# Altium footprint library LQ-TC264-SYSVC带丝印封装.PcbLib: 2 footprints
Each footprint in its own frame and in the unit in brackets; x right, y up, seen from the top. Pads: shape width x height; smd on the part's side, far side on the other; paste and mask are expansions set on the pad; w line width, h text height; cw(c..) or ccw(c..) is an arc to the next point about the centre after c.
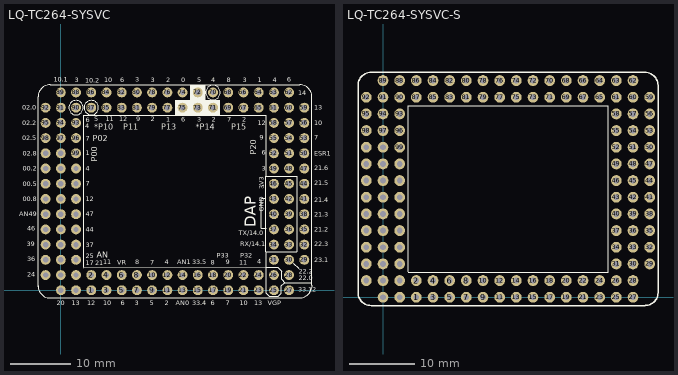
[diagram p0: the footprints below, top view; thin cyan lines are the x and y axes]

## LQ-TC264-SYSVC [mm] "单片机核心板封装库"
pads (127):
  round 1.65 hole 0.88: 1(5.08,0) 2(5.08,2.54) 3(7.62,0) 4(7.62,2.54) 5(10.16,0) 6(10.16,2.54) 7(12.7,0) 8(12.7,2.54) 9(15.24,0) 10(15.24,2.54) 11(17.78,0) 12(17.78,2.54) 13(20.32,0) 14(20.32,2.54) 15(22.86,0) 16(22.86,2.54) 17(25.4,0) 18(25.4,2.54) 19(27.94,0) 20(27.94,2.54) 21(30.48,0) 22(30.48,2.54) 23(33.02,0) 24(33.02,2.54) 25(35.56,0) 26(35.56,2.54) 27(38.1,0) 28(38.1,2.54) 30(38.1,5.08) 31(35.56,5.08) 33(38.1,7.62) 34(35.56,7.62) 36(38.1,10.16) 37(35.56,10.16) 39(38.1,12.7) 40(35.56,12.7) 42(38.1,15.24) 43(35.56,15.24) 45(38.1,17.78) 46(35.56,17.78) 48(38.1,20.32) 49(35.56,20.32) 51(38.1,22.86) 52(35.56,22.86) 54(38.1,25.4) 55(35.56,25.4) 57(38.1,27.94) 58(35.56,27.94) 60(38.1,30.48) 61(35.56,30.48) 62(38.1,33.02) 63(35.56,33.02) 64(33.02,33.02) 65(33.02,30.48) 66(30.48,33.02) 67(30.48,30.48) 68(27.94,33.02) 69(27.94,30.48) 70(25.4,33.02) 71(25.4,30.48) 72(22.86,33.02) 73(22.86,30.48) 74(20.32,33.02) 75(20.32,30.48) 76(17.78,33.02) 77(17.78,30.48) 78(15.24,33.02) 79(15.24,30.48) 80(12.7,33.02) 81(12.7,30.48) 82(10.16,33.02) 83(10.16,30.48) 84(7.62,33.02) 85(7.62,30.48) 86(5.08,33.02) 87(5.08,30.48) 88(2.54,33.02) 89(0,33.02) 90(2.54,30.48) 91(0,30.48) 93(2.54,27.94) 94(0,27.94) 96(2.54,25.4) 97(0,25.4) 99(2.54,22.86) 100(0,22.86) 102(2.54,20.32) 103(0,20.32) 105(2.54,17.78) 106(0,17.78) 108(2.54,15.24) 109(0,15.24) 111(2.54,12.7) 112(0,12.7) 114(2.54,10.16) 115(0,10.16) 117(2.54,7.62) 118(0,7.62) 120(2.54,5.08) 121(0,5.08) 123(2.54,2.54) 124(0,2.54) 126(2.54,0) 127(0,0)
  round 1.65 hole 0.88 mask+0.102: 29(40.64,5.08) 32(40.64,7.62) 35(40.64,10.16) 38(40.64,12.7) 41(40.64,15.24) 44(40.64,17.78) 47(40.64,20.32) 50(40.64,22.86) 53(40.64,25.4) 56(40.64,27.94) 59(40.64,30.48) 92(-2.54,30.48) 95(-2.54,27.94) 98(-2.54,25.4) 101(-2.54,22.86) 104(-2.54,20.32) 107(-2.54,17.78) 110(-2.54,15.24) 113(-2.54,12.7) 116(-2.54,10.16) 119(-2.54,7.62) 122(-2.54,5.08) 125(-2.54,2.54)
Top Overlay:
  circle w0.16: c2.54,30.48 r1.2
  circle w0.16: c5.08,30.48 r1.2
  circle w0.16: c25.4,33.02 r1.2
  rectangle: 21.59,31.75 24.13,34.29
  rectangle: 19.05,29.185 26.543,31.75
  lines w0.1: 4.724,29.21 4.75,29.185 ; 34.315,3.81 34.315,-0.533 34.798,-1.016 36.322,-1.016 36.83,-0.508 36.83,0.762 37.363,1.295 ; 34.315,3.835 36.17,3.835 36.855,3.15 36.855,1.803 37.363,1.295 ; 38.818,4.514 39.751,3.683 ; 41.91,1.295 37.363,1.295
  lines w0.15: 3.81,3.8 34.315,3.81 34.315,6.426 ; 3.81,3.861 3.81,29.185 ; 3.9,29.185 32.258,29.185 ; 31.979,29.185 34.29,29.185 34.29,19.025 ; 33.438,15.26 33.438,10.332 34.163,10.332 34.188,10.307 34.188,6.426 39.37,6.426 ; 33.515,15.336 34.188,15.336 ; 33.769,17.546 33.845,17.622 ; 34.188,6.471 34.188,19.025 39.421,19.025 39.421,6.426
  lines w0.2: -3.81,0.596 -3.81,32.29 cw(c-1.81,32.29) -1.81,34.29 39.91,34.29 cw(c39.91,32.29) 41.91,32.29 41.91,0.861 ; -3.81,0.73 ccw(c-1.81,0.73) -1.81,-1.27 39.805,-1.27 ccw(c39.805,0.861) 41.936,0.861
  text "14" at 39.624,32.512 h0.8
  text "22.3" at 42.291,7.366 h0.8
  text "21.4" at 42.291,14.732 h0.8
  text "21.6" at 42.291,20.066 h0.8
  text "4" at 35.382,34.747 h0.8
  text "21.3" at 42.291,12.294 h0.8
  text "21.5" at 42.291,17.526 h0.8
  text "7" at 42.291,25.146 h0.8
  text "7" at 4.118,17.424 h0.8
  text "10.2" at 4.064,34.671 h0.8
  text "4" at 4.118,19.99 h0.8
  text "10" at 7.264,34.747 h0.8
  text "36" at -5.627,4.826 h0.8
  text "46" at -5.588,9.906 h0.8
  text "7" at 4.118,24.968 h0.8
  text "02.0" at -6.477,30.099 h0.8
  text "02.2" at -6.477,27.559 h0.8
  text "4" at 4.064,27.051 h0.8
  text "12" at 4.118,14.834 h0.8
  text "44" at 4.118,9.779 h0.8
  text "10" at 29.896,-2.54 h0.8
  text "37" at 4.118,7.214 h0.8
  text "VR" at 9.423,4.242 h0.8
  text "33.12" at 39.624,-0.254 h0.8
  text "VGP" at 34.544,-2.54 h0.8
  text "39" at -5.715,7.366 h0.8
  text "11" at 7.112,4.318 h0.8
  text "10.1" at -1.143,34.798 h0.8
  text "3" at 12.395,34.773 h0.8
  text "6" at 4.191,28.067 h0.8
  text "11" at 7.468,28.194 h0.8
  text "9" at 12.548,28.194 h0.8
  text "3" at 15.011,34.747 h0.8
  text "3" at 22.758,28.092 h0.8
  text "1" at 17.577,28.143 h0.8
  text "6" at 20.066,28.143 h0.8
  text "4" at 25.146,34.747 h0.8
  text "2" at 25.171,28.169 h0.8
  text "7" at 27.813,28.092 h0.8
  text "5" at 5.588,28.194 h0.8
  text "2" at 15.037,28.194 h0.8
  text "12" at 9.779,28.219 h0.8
  text "10" at 42.291,27.559 h0.8
  text "6" at 9.931,34.747 h0.8
  text "2" at 17.602,34.747 h0.8
  text "2" at 30.302,28.143 h0.8
  text "0" at 20.066,34.747 h0.8
  text "5" at 22.749,34.747 h0.8
  text "3" at 30.353,34.747 h0.8
  text "1" at 32.85,34.747 h0.8
  text "20" at -0.66,-2.54 h0.8
  text "10" at 7.061,-2.54 h0.8
  text "7" at 14.91,4.293 h0.8
  text "5" at 14.859,-2.54 h0.8
  text "3" at 12.344,-2.54 h0.8
  text "AN0" at 19.177,-2.54 h0.8
  text "33.4" at 21.971,-2.54 h0.8
  text "6" at 24.994,-2.54 h0.8
  text "8" at 24.994,4.267 h0.8
  text "11" at 29.82,4.267 h0.8
  text "13" at 32.258,-2.54 h0.8
  text "13" at 1.804,-2.54 h0.8
  text "8" at 12.432,4.318 h0.8
  text "6" at 9.982,-2.54 h0.8
  text "4" at 17.348,4.343 h0.8
  text "2" at 17.323,-2.54 h0.8
  text "33.5" at 21.971,4.318 h0.8
  text "7" at 27.534,-2.54 h0.8
  text "23.1" at 42.291,4.699 h0.8
  text "47" at 4.118,12.319 h0.8
  text "AN49" at -6.985,12.319 h0.8
  text "1" at 4.118,22.504 h0.8
  text "02.5" at -6.477,25.019 h0.8
  text "3" at 2.343,34.747 h0.8
  text "24" at -5.588,2.286 h0.8
  text "3V3" at 33.909,16.891 h0.8
  text "13" at 42.291,30.099 h0.8
  text "9" at 38.456,35.547 h0.8
  text "12" at 32.893,27.559 h0.8
  text "8" at 27.711,34.747 h0.8
  text "3" at 33.528,19.939 h0.8
  text "6" at 33.909,25.908 h0.8
  text "6" at 33.528,22.606 h0.8
  text "TX/14.0" at 29.718,9.144 h0.8
  text "ESR1" at 42.291,22.479 h0.8
  text "25" at 4.191,5.334 h0.8
  text "12" at 4.445,-2.54 h0.8
  text "4" at 32.766,4.394 h0.8
  text "DAP" at 32.512,10.541 h1.8
  text "GND" at 33.909,13.081 h0.8
  text "21.2" at 42.291,9.804 h0.8
  text "AN1" at 19.431,4.318 h0.8
  text "RX/14.1" at 29.972,7.366 h0.8
  text "9" at 27.508,4.318 h0.8
  text "P02" at 5.334,24.892 h1
  text "P00" at 6.096,21.412 h1
  text "AN" at 5.969,5.461 h1
  text "P33" at 26.035,5.461 h0.8
  text "*P10" at 5.588,26.797 h1
  text "P11" at 10.414,26.797 h1
  text "*P14" at 22.479,26.757 h1
  text "P13" at 16.764,26.797 h1
  text "P15" at 28.448,26.797 h1
  text "P20" at 32.639,22.606 h1
  text "P32" at 29.972,5.461 h0.8
  text "00.5" at -6.35,17.399 h0.8
  text "00.2" at -6.35,19.939 h0.8
  text "00.8" at -6.35,14.859 h0.8
  text "02.8" at -6.35,22.479 h0.8
  text "21" at 5.715,4.191 h0.8
  text "17" at 4.191,4.191 h0.8
  text "22.0" at 39.751,1.651 h0.8
  text "22.2" at 39.751,2.794 h0.8
Bottom Overlay:
  circle w0.16: c2.54,30.48 r1.2
  circle w0.16: c5.08,30.48 r1.2
  circle w0.16: c25.4,33.02 r1.2
  rectangle: 19.05,29.21 26.543,31.75
  rectangle: 21.59,31.623 24.13,34.29
  lines w0.1: -3.91,13.97 3.81,13.97 ; -3.91,21.539 -2.108,21.539 -1.27,22.377 -1.27,23.597 -0.686,24.181 3.81,24.181 ; -3.81,31.699 0.686,31.699 1.27,31.115 1.27,29.845 1.905,29.21 4.724,29.21 ; 3.835,3.785 3.835,29.21 ; 6.35,29.21 6.35,34.29 ; 13.97,34.29 13.97,32.385 14.605,31.75 15.875,31.75 16.51,31.115 16.51,29.21 ; 19.075,29.185 19.075,31.013 19.812,31.75 21.209,31.75 21.304,31.845 21.495,32.036 21.59,32.131 21.59,34.29 ; 21.565,-1.27 21.565,3.734 ; 26.67,29.21 26.67,34.29 ; 31.75,3.809 31.75,1.905 32.385,1.27 33.655,1.27 34.163,0.762 ; 31.75,3.81 36.195,3.81 36.83,3.175 36.83,-0.508 36.322,-1.016 34.671,-1.016 34.163,-0.508 34.163,0.762 ; 34.163,0.635 34.163,0.762 ; 34.265,3.81 34.265,29.261 ; 34.265,19.05 39.37,19.05 39.37,6.477 34.315,6.477 ; 34.29,20.117 34.29,19.939 34.976,19.253 38.837,19.253 39.37,19.787 39.37,20.955 ; 34.29,29.21 36.195,29.21 36.83,29.845 36.83,31.115 37.49,31.775 42,31.775 ; 36.83,1.27 41.91,1.27 ; 36.932,27.164 37.389,27.621 ; 37.211,24.536 37.668,24.994 ; 37.567,29.489 38.024,29.947 ; 39.395,8.89 41.91,8.89 ; 41.91,21.565 39.98,21.565 39.37,20.955 ; 41.91,24.105 37.313,24.105 36.855,23.647 36.855,22.149 37.44,21.565 38.76,21.565 39.37,20.955
  lines w0.15: 3.81,3.81 34.265,3.81 ; 3.835,29.185 34.29,29.185
  lines w0.2: -3.81,0.635 -3.81,32.29 cw(c-1.81,32.29) -1.81,34.29 ; -3.81,0.73 ccw(c-1.81,0.73) -1.81,-1.27 ; -1.905,-1.27 39.599,-1.27 ; -1.905,34.29 39.91,34.29 cw(c39.91,32.29) 41.91,32.29 41.91,0.762 cw(c39.853,0.762) 39.853,-1.295
  text "22.2" at 37.973,3.429 h0.8
  text "P32" at 31.496,5.334 h0.8
  text "P20" at 32.639,25.019 h1
  text "P15" at 30.734,26.797 h1
  text "P13" at 18.669,26.757 h1
  text "*P14" at 24.892,26.757 h1
  text "P11" at 12.319,26.797 h1
  text "*P10" at 8.636,26.797 h1
  text "P33" at 27.559,5.207 h0.8
  text "AN" at 7.493,5.588 h1
  text "P00" at 5.969,23.622 h1
  text "P02" at 7.366,24.765 h1
  text "9" at 28.016,3.983 h0.8
  text "14.1/RX" at 33.909,7.366 h0.8
  text "AN1" at 21.209,3.937 h0.8
  text "21.2" at 44.323,9.779 h0.8
  text "45" at -0.635,8.509 h0.8
  text "DAP" at 31.877,15.748 h1.8
  text "4" at 33.147,3.937 h0.8
  text "35" at -0.635,3.404 h0.8
  text "12" at 5.588,-2.032 h0.8
  text "25" at 5.207,4.699 h0.8
  text "ESR1" at 44.45,22.479 h0.8
  text "ESR0" at 37.846,21.209 h0.8
  text "TDO" at 37.846,11.049 h0.8
  text "0" at 37.084,19.05 h0.8
  text "TMS" at 37.922,16.205 h0.8
  text "TCK" at 37.998,13.64 h0.8
  text "TR" at 37.465,8.509 h0.8
  text "14.0/TX" at 33.909,9.779 h0.8
  text "6" at 34.163,22.479 h0.8
  text "6" at 33.655,25.908 h0.8
  text "3" at 34.163,20.066 h0.8
  text "14" at 37.592,28.829 h0.8
  text "8" at 28.092,34.163 h0.8
  text "5" at 34.671,28.829 h0.8
  text "12" at 34.29,27.432 h0.8
  text "9" at 37.846,34.963 h0.8
  text "13" at 43.205,29.947 h0.8
  text "24" at -4.039,2.286 h0.8
  text "3" at 2.724,34.163 h0.8
  text "5" at -4.064,25.019 h0.8
  text "8" at -4.039,22.555 h0.8
  text "1" at -1.016,28.931 h0.8
  text "3" at -1.016,26.441 h0.8
  text "1" at 4.597,22.504 h0.8
  text "49" at -4.039,12.319 h0.8
  text "47" at 5.359,12.319 h0.8
  text "23.1" at 44.069,4.699 h0.8
  text "7" at 28.194,-2.032 h0.8
  text "33.5" at 24.003,3.937 h0.8
  text "2" at 17.907,-2.032 h0.8
  text "4" at 17.856,3.983 h0.8
  text "6" at 10.414,-2.032 h0.8
  text "8" at 12.94,3.983 h0.8
  text "13" at 3.048,-2.032 h0.8
  text "17" at 1.905,0.889 h0.8
  text "21" at 6.35,4.064 h0.8
  text "13" at 33.528,-2.032 h0.8
  text "11" at 30.836,4.013 h0.8
  text "8" at 25.502,3.983 h0.8
  text "6" at 25.654,-2.032 h0.8
  text "33.4" at 24.003,-2.159 h0.8
  text "AN0" at 21.463,-2.032 h0.8
  text "3" at 13.081,-2.032 h0.8
  text "5" at 15.494,-2.032 h0.8
  text "7" at 15.418,3.983 h0.8
  text "10" at 8.128,-2.032 h0.8
  text "16" at -0.635,0.914 h0.8
  text "20" at 0.635,-2.032 h0.8
  text "1" at 33.147,34.163 h0.8
  text "3" at 30.734,34.163 h0.8
  text "5" at 23.13,34.163 h0.8
  text "0" at 20.447,34.163 h0.8
  text "2" at 30.81,28.346 h0.8
  text "2" at 17.983,34.163 h0.8
  text "6" at 10.312,34.163 h0.8
  text "10" at 43.307,27.407 h0.8
  text "12" at 10.287,28.346 h0.8
  text "2" at 15.545,28.346 h0.8
  text "5" at 5.588,28.194 h0.8
  text "0" at 33.299,28.346 h0.8
  text "7" at 28.321,28.346 h0.8
  text "2" at 25.679,28.346 h0.8
  text "4" at 25.527,34.163 h0.8
  text "6" at 20.574,28.346 h0.8
  text "1" at 18.085,28.346 h0.8
  text "3" at 23.266,28.346 h0.8
  text "3" at 15.392,34.163 h0.8
  text "9" at 13.056,28.346 h0.8
  text "11" at 7.976,28.346 h0.8
  text "6" at 4.699,28.194 h0.8
  text "3" at 12.776,34.163 h0.8
  text "10.1" at 0.889,34.163 h0.8
  text "11" at 8.001,3.937 h0.8
  text "39" at -4.039,7.188 h0.8
  text "VGP" at 36.449,-2.032 h0.8
  text "33.12" at 42.164,-0.381 h0.8
  text "VR" at 10.922,3.937 h0.8
  text "37" at 5.359,7.214 h0.8
  text "10" at 31.242,-2.032 h0.8
  text "44" at 5.359,9.779 h0.8
  text "48" at -0.635,11.024 h0.8
  text "12" at 5.359,14.834 h0.8
  text "4" at 4.572,27.305 h0.8
  text "2" at -4.039,27.559 h0.8
  text "0" at -4.039,30.124 h0.8
  text "7" at 4.597,24.968 h0.8
  text "46" at -4.039,9.779 h0.8
  text "36" at -4.039,4.674 h0.8
  text "38" at -0.635,5.867 h0.8
  text "10" at 8.128,34.163 h0.8
  text "4" at 4.597,19.99 h0.8
  text "8" at -4.039,14.884 h0.8
  text "10.2" at 5.969,34.29 h0.8
  text "2" at -4.039,19.99 h0.8
  text "5" at -4.039,17.399 h0.8
  text "7" at 4.597,17.424 h0.8
  text "0" at 34.671,3.429 h0.8
  text "7" at 42.799,25.019 h0.8
  text "21.5" at 44.323,17.399 h0.8
  text "21.3" at 44.323,12.319 h0.8
  text "4" at 35.763,34.163 h0.8
  text "8" at 37.084,23.876 h0.8
  text "21.6" at 44.196,19.812 h0.8
  text "21.4" at 44.196,14.859 h0.8
  text "0" at 39.878,2.159 h0.8
  text "22.3" at 44.196,7.239 h0.8
  text "22.1" at 34.036,5.207 h0.8
  text "GND" at 32.258,13.081 h0.8
  text "3V3" at 34.29,17.399 h0.8
  text "GND" at 32.258,15.621 h0.8
  text "RST" at 37.846,5.969 h0.8
  text "6" at -1.016,23.851 h0.8
  text "3" at -1.016,18.847 h0.8
  text "0" at -1.016,21.387 h0.8
  text "6" at -1.016,16.256 h0.8
  text "9" at -1.016,13.665 h0.8
  text "11" at 37.363,26.365 h0.8

## LQ-TC264-SYSVC-S [mm] "单片机核心板封装库"
pads (127):
  round 1.65 hole 0.88: 1(5.08,0) 2(5.08,2.54) 3(7.62,0) 4(7.62,2.54) 5(10.16,0) 6(10.16,2.54) 7(12.7,0) 8(12.7,2.54) 9(15.24,0) 10(15.24,2.54) 11(17.78,0) 12(17.78,2.54) 13(20.32,0) 14(20.32,2.54) 15(22.86,0) 16(22.86,2.54) 17(25.4,0) 18(25.4,2.54) 19(27.94,0) 20(27.94,2.54) 21(30.48,0) 22(30.48,2.54) 23(33.02,0) 24(33.02,2.54) 25(35.56,0) 26(35.56,2.54) 27(38.1,0) 28(38.1,2.54) 30(38.1,5.08) 31(35.56,5.08) 33(38.1,7.62) 34(35.56,7.62) 36(38.1,10.16) 37(35.56,10.16) 39(38.1,12.7) 40(35.56,12.7) 42(38.1,15.24) 43(35.56,15.24) 45(38.1,17.78) 46(35.56,17.78) 48(38.1,20.32) 49(35.56,20.32) 51(38.1,22.86) 52(35.56,22.86) 54(38.1,25.4) 55(35.56,25.4) 57(38.1,27.94) 58(35.56,27.94) 60(38.1,30.48) 61(35.56,30.48) 62(38.1,33.02) 63(35.56,33.02) 64(33.02,33.02) 65(33.02,30.48) 66(30.48,33.02) 67(30.48,30.48) 68(27.94,33.02) 69(27.94,30.48) 70(25.4,33.02) 71(25.4,30.48) 72(22.86,33.02) 73(22.86,30.48) 74(20.32,33.02) 75(20.32,30.48) 76(17.78,33.02) 77(17.78,30.48) 78(15.24,33.02) 79(15.24,30.48) 80(12.7,33.02) 81(12.7,30.48) 82(10.16,33.02) 83(10.16,30.48) 84(7.62,33.02) 85(7.62,30.48) 86(5.08,33.02) 87(5.08,30.48) 88(2.54,33.02) 89(0,33.02) 90(2.54,30.48) 91(0,30.48) 93(2.54,27.94) 94(0,27.94) 96(2.54,25.4) 97(0,25.4) 99(2.54,22.86) 100(0,22.86) 102(2.54,20.32) 103(0,20.32) 105(2.54,17.78) 106(0,17.78) 108(2.54,15.24) 109(0,15.24) 111(2.54,12.7) 112(0,12.7) 114(2.54,10.16) 115(0,10.16) 117(2.54,7.62) 118(0,7.62) 120(2.54,5.08) 121(0,5.08) 123(2.54,2.54) 124(0,2.54) 126(2.54,0) 127(0,0)
  round 1.65 hole 0.88 mask+0.102: 29(40.64,5.08) 32(40.64,7.62) 35(40.64,10.16) 38(40.64,12.7) 41(40.64,15.24) 44(40.64,17.78) 47(40.64,20.32) 50(40.64,22.86) 53(40.64,25.4) 56(40.64,27.94) 59(40.64,30.48) 92(-2.54,30.48) 95(-2.54,27.94) 98(-2.54,25.4) 101(-2.54,22.86) 104(-2.54,20.32) 107(-2.54,17.78) 110(-2.54,15.24) 113(-2.54,12.7) 116(-2.54,10.16) 119(-2.54,7.62) 122(-2.54,5.08) 125(-2.54,2.54)
Top Overlay:
  lines w0.15: 3.81,3.8 34.29,3.8 34.29,29.185 3.9,29.185 ; 3.81,3.861 3.81,29.185
  lines w0.2: -3.81,0.596 -3.81,32.29 cw(c-1.81,32.29) -1.81,34.29 39.91,34.29 cw(c39.91,32.29) 41.91,32.29 41.91,0.71 cw(c39.954,0.71) 39.954,-1.246 ; -3.81,0.73 ccw(c-1.81,0.73) -1.81,-1.27 39.954,-1.27
Bottom Overlay:
  lines w0.1: 3.835,3.785 3.835,29.21 ; 21.565,-1.27 21.565,3.734 ; 34.265,3.81 34.265,29.261
  lines w0.15: 3.81,3.81 34.265,3.81 ; 3.835,29.185 34.29,29.185
  lines w0.2: -3.81,0.635 -3.81,32.29 cw(c-1.81,32.29) -1.81,34.29 ; -3.81,0.73 ccw(c-1.81,0.73) -1.81,-1.27 ; -1.905,-1.27 39.599,-1.27 ; -1.905,34.29 39.91,34.29 cw(c39.91,32.29) 41.91,32.29 41.91,0.762 cw(c39.853,0.762) 39.853,-1.295